# Altium footprint library Connectors.PcbLib: 15 footprints
Each footprint in its own frame and in the unit in brackets; x right, y up, seen from the top. Pads: shape width x height; smd on the part's side, far side on the other; paste and mask are expansions set on the pad; w line width, h text height; cw(c..) or ccw(c..) is an arc to the next point about the centre after c.
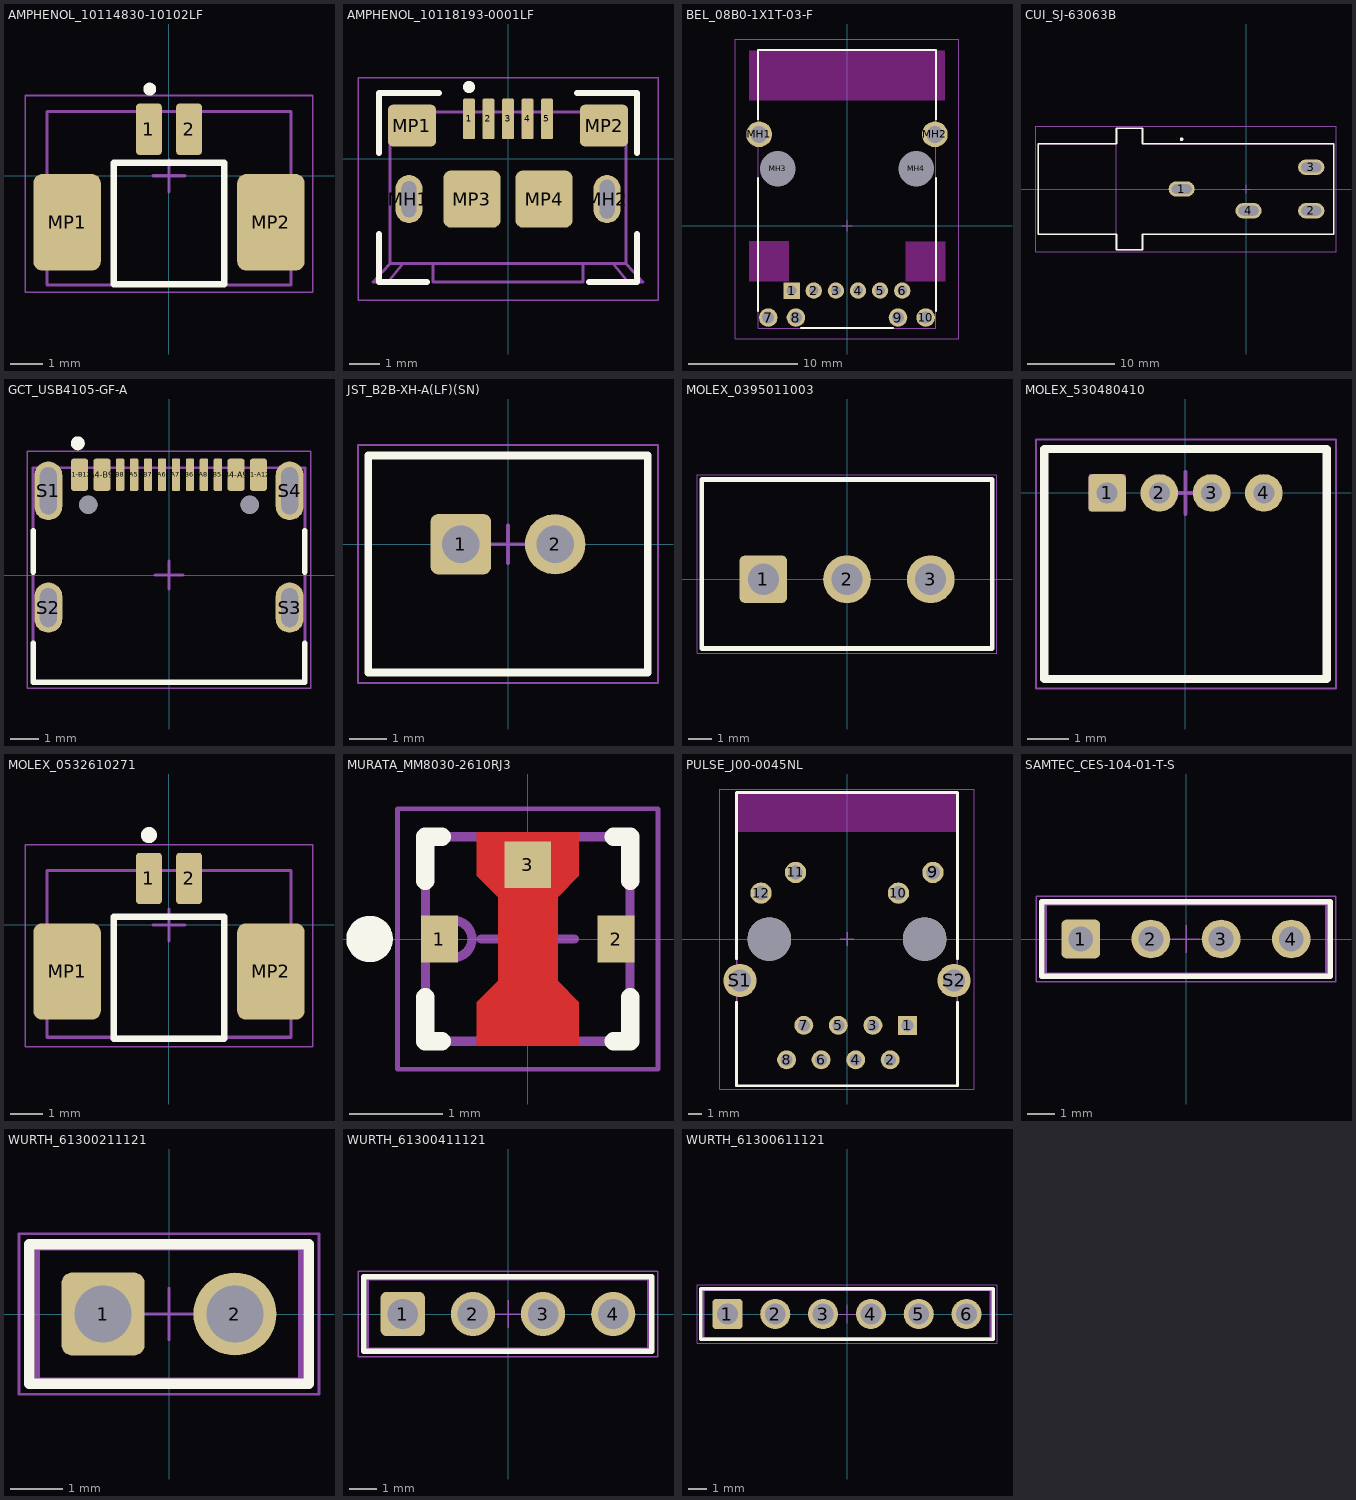
[diagram p0: the footprints below, top view; thin cyan lines are the x and y axes]

## AMPHENOL_10114830-10102LF [mm] "Connector Header Surface Mount, Right Angle 2 position 0.049\" (1.25mm)"
height 3.42
pads (4):
  rrect25% 0.8x1.6 smd: 1(-0.625,1.45) 2(0.625,1.45)
  rrect25% 2.1x3 smd: MP1(-3.175,-1.45) MP2(3.175,-1.45)
Top Overlay:
  circle w0.2: c-0.6,2.7 r0.1
  lines w0.2: -1.725,-3.375 -1.725,0.4 1.725,0.4 1.725,-3.375 -1.725,-3.375
Top Component Outline:
  lines w0.1: -3.8,-3.4 -3.8,2 3.8,2 3.8,-3.4 -3.8,-3.4
Top Courtyard:
  lines w0.05: -4.475,-3.625 -4.475,2.5 4.475,2.5 4.475,-3.625 -4.475,-3.625
Top Component Center:
  lines w0.1: -0.5,0 0.5,0 ; 0,-0.5 0,0.5
Top Designator:
  text ".Designator" at -4.04,-0.476 h2
Top Assembly:
  lines w0.1: -3.8,-3.4 -3.8,2 3.8,2 3.8,-3.4 -3.8,-3.4
  text ".Designator" at -4.04,-0.476 h2
3D body "AMPHENOL_10114830-10102LF.step": height 3.42, standoff -0.06, extent -3.825,-3.35 3.825,1.95

## AMPHENOL_10118193-0001LF [mm] "USB - micro B USB 2.0 Receptacle Connector 5 Position Surface Mount, Right Angle; Through Hole"
height 2.813
pads (11):
  rrect25% 0.4x1.35 smd: 1(-1.3,1.338) 2(-0.65,1.338) 3(0,1.338) 4(0.65,1.338) 5(1.3,1.338)
  rrect100% 0.9x1.6 hole 0.5 slot 1.2 at 90 deg: MH1(-3.3,-1.337)
  rrect100% 0.9x1.6 hole 0.5 slot 1.3 at 90 deg: MH2(3.3,-1.337)
  rrect25% 1.6x1.4 smd: MP1(-3.2,1.113) MP2(3.2,1.113)
  rrect25% 1.9x1.9 smd: MP3(-1.2,-1.337) MP4(1.2,-1.337)
Top Overlay:
  circle w0.2: c-1.3,2.4 r0.1
  lines w0.2: -4.3,-2.5 -4.3,-4.1 -2.7,-4.1 ; -4.3,0.2 -4.3,2.2 -2.3,2.2 ; 2.3,2.2 4.3,2.2 4.3,0.2 ; 2.7,-4.1 4.3,-4.1 4.3,-2.5
Top Component Outline:
  lines w0.1: -3.5,-3.487 -4,-4.097 -4.5,-4.097 -3.93,-3.487 ; -2.5,-3.487 -2.5,-4.097 2.5,-4.097 2.5,-3.487 ; 3.5,-3.487 4,-4.097 4.5,-4.097 3.93,-3.487 ; -3.93,-3.487 3.93,-3.487 ; -3.93,-3.487 -3.93,1.563 3.93,1.563 3.93,-3.487
Top Courtyard:
  lines w0.05: -5,-4.7 5,-4.7 5,2.7 -5,2.7 -5,-4.7
Top Assembly:
  lines w0.1: -3.5,-3.487 -4,-4.097 -4.5,-4.097 -3.93,-3.487 ; -2.5,-3.487 -2.5,-4.097 2.5,-4.097 2.5,-3.487 ; 3.5,-3.487 4,-4.097 4.5,-4.097 3.93,-3.487 ; -3.93,-3.487 3.93,-3.487 ; -3.93,-3.487 -3.93,1.563 3.93,1.563 3.93,-3.487
3D body "AMPHENOL_10118193-0001LF.step": height 2.85, standoff -0.75, extent -3.93,-4.06 3.93,1.65

## BEL_08B0-1X1T-03-F [mm] "1 Port RJ45 Through Hole 10/100 Base-T"
pads (14):
  rect 1.5x1.5 hole 0.9: 1(-5.08,-5.935)
  round 1.5 hole 0.9: 2(-3.05,-5.935) 3(-1.02,-5.935) 4(1.01,-5.935) 5(3.04,-5.935) 6(5.07,-5.935)
  round 1.7 hole 1.1: 7(-7.23,-8.405) 8(-4.69,-8.405) 9(4.68,-8.405) 10(7.22,-8.405)
  round 2.355 hole 1.57: MH1(-8.065,8.405) MH2(8.065,8.405)
  round 1.625 hole 3.25 unplated: MH3(-6.35,5.235) MH4(6.35,5.235)
Top Overlay:
  lines w0.2: -8.155,-7.81 -8.155,4.39 ; -8.155,9.79 -8.155,16.155 8.155,16.155 8.155,9.79 ; -4.2,-9.375 4.2,-9.375 ; 8.155,-7.81 8.155,4.39
Keep-Out Layer:
  rectangle: 5.361,-5.094 9.041,-1.414
  rectangle: -9,-5.08 -5.32,-1.4
  rectangle: -9.015,11.53 9.015,16.1
Top Component Outline:
  lines w0.1: -8.155,-9.375 8.155,-9.375 8.155,16.155 -8.155,16.155 -8.155,-9.375
Top Courtyard:
  lines w0.05: -10.242,-10.375 10.242,-10.375 10.242,17.155 -10.242,17.155 -10.242,-10.375
Top Component Center:
  lines w0.1: -0.5,0 0.5,0 ; 0,-0.5 0,0.5
Top Designator:
  text ".Designator" at -4.04,-0.476 h2
Top Assembly:
  lines w0.1: -8.155,-9.375 8.155,-9.375 8.155,16.155 -8.155,16.155 -8.155,-9.375
3D body "BEL_08B0-1X1T-03-F.step": height 15.41, standoff -3.29, extent -9.547,-9.355 9.547,16.807

## CUI_SJ-63063B [mm] "6.35 mm, Stereo, Right Angle, Through Hole, 3 Conductors, 1 Internal Tip Switch, Audio Jack Connector"
height 12.52
pads (4):
  oval 3.016x1.75 hole 1.1 slot 2.3 at 0 deg: 1(-7.45,0) 2(7.45,-2.5) 3(7.45,2.5) 4(0.25,-2.5)
Top Overlay:
  circle w0.2: c-7.45,5.725 r0.1
  lines w0.2: -23.95,-5.2 -23.95,5.2 -14.95,5.2 -14.95,7 -11.95,7 -11.95,5.2 10.05,5.2 10.05,-5.2 -11.95,-5.2 -11.95,-7 -14.95,-7 -14.95,-5.2 -23.95,-5.2
Top Component Outline:
  circle w0.2: c-7.45,5.725 r0.1
  lines w0.1: -14.95,-5.2 -14.95,-7 -11.95,-7 -11.95,-5.2 10.05,-5.2 10.05,5.2 -11.95,5.2 -11.95,7 -14.95,7 -14.95,5.2 ; -14.95,-5.2 -14.95,5.2 ; -14.95,-5.2 -23.95,-5.2 -23.95,5.2 -14.95,5.2
Top Courtyard:
  lines w0.05: -24.2,-7.2 10.3,-7.2 10.3,7.2 -24.2,7.2 -24.2,-7.2
Top Component Center:
  lines w0.1: -0.5,0 0.5,0 ; 0,-0.5 0,0.5
Top Designator:
  text ".Designator" at -4.04,-0.476 h2
Top Assembly:
  circle w0.2: c-7.45,5.725 r0.1
  lines w0.1: -14.95,-5.2 -14.95,-7 -11.95,-7 -11.95,-5.2 10.05,-5.2 10.05,5.2 -11.95,5.2 -11.95,7 -14.95,7 -14.95,5.2 ; -14.95,-5.2 -14.95,5.2 ; -14.95,-5.2 -23.95,-5.2 -23.95,5.2 -14.95,5.2 ; -8.169,-0.509 cw(c-8.14,0) -8.169,0.509 -6.731,0.509 cw(c-6.76,0) -6.731,-0.509 -8.169,-0.509 ; -0.469,-3.009 cw(c-0.44,-2.5) -0.469,-1.991 0.969,-1.991 cw(c0.94,-2.5) 0.969,-3.009 -0.469,-3.009 ; 6.731,-3.009 cw(c6.76,-2.5) 6.731,-1.991 8.169,-1.991 cw(c8.14,-2.5) 8.169,-3.009 6.731,-3.009 ; 6.731,1.966 cw(c6.76,2.475) 6.731,2.984 8.169,2.984 cw(c8.14,2.475) 8.169,1.966 6.731,1.966
  text ".Designator" at -4.04,-0.476 h2
3D body "CUI_SJ-63063B.step": height 12.52, standoff -4.28, extent -23.975,-6.925 9.875,6.975

## GCT_USB4105-GF-A [mm] "USB-C (USB TYPE-C) USB 2.0 Receptacle Connector 24 (16+8 Dummy) Position Surface Mount, Right Angle; Through Hole"
height 3.263
pads (18):
  rrect25% 0.6x1.15 smd: A1-B12(-3.2,3.59) A4-B9(-2.4,3.59) B1-A12(3.2,3.59) B4-A9(2.4,3.59)
  rrect25% 0.3x1.15 smd: A5(-1.25,3.59) A6(-0.25,3.59) A7(0.25,3.59) A8(1.25,3.59) B5(1.75,3.59) B6(0.75,3.59) B7(-0.75,3.59) B8(-1.75,3.59)
  rrect100% 1x2.1 hole 0.6 slot 1.7 at 90 deg: S1(-4.32,3.015) S4(4.32,3.015)
  rrect100% 1x1.8 hole 0.6 slot 1.4 at 90 deg: S2(-4.32,-1.165) S3(4.32,-1.165)
  round 0.65 hole 0.65 unplated mask+0: ""(-2.89,2.515) ""(2.89,2.515)
Top Overlay:
  circle w0.25: c-3.265,4.715 r0.125
  lines w0.2: -4.865,-2.44 -4.865,-3.84 4.865,-3.84 4.865,-2.44 ; -4.865,0.11 -4.865,1.59 ; 4.865,0.11 4.865,1.59
Top Component Outline:
  lines w0.1: -4.865,-3.84 4.865,-3.84 4.865,3.84 -4.865,3.84 -4.865,-3.84
Top Courtyard:
  lines w0.05: -5.075,-4.05 -5.075,4.425 5.075,4.425 5.075,-4.05 -5.075,-4.05
Top Component Center:
  lines w0.1: -0.5,0 0.5,0 ; 0,-0.5 0,0.5
Top Designator:
  text ".Designator" at -4.04,-0.476 h2
Top Assembly:
  lines w0.1: -4.865,-3.84 4.865,-3.84 4.865,3.84 -4.865,3.84 -4.865,-3.84
  text ".Designator" at -4.04,-0.476 h2
3D body "GCT_USB4105-GF-A.step": height 3.26, standoff -0.9, extent -4.79,-3.765 4.79,3.769

## JST_B2B-XH-A(LF)(SN) [mm] "Connector Header Through Hole 2 position 0.098\" (2.50mm)"
height 7
pads (2):
  rrect25% 1.6x1.6 hole 1: 1(-1.25,0)
  round 1.6 hole 1: 2(1.25,0)
Top Overlay:
  lines w0.2: -3.7,-3.4 -3.7,2.35 3.7,2.35 3.7,-3.4 -3.7,-3.4
Top Component Outline:
  lines w0.1: -3.7,-3.4 -3.7,2.35 3.7,2.35 3.7,-3.4 -3.7,-3.4
Top Courtyard:
  lines w0.05: -3.975,-3.675 -3.975,2.625 3.975,2.625 3.975,-3.675 -3.975,-3.675
Top Component Center:
  lines w0.1: -0.5,0 0.5,0 ; 0,-0.5 0,0.5
Top Designator:
  text ".Designator" at -4.04,-0.476 h2
Top Assembly:
  lines w0.1: -3.712,-3.403 -3.712,2.347 3.688,2.347 3.688,-3.403 -3.712,-3.403 ; -1.85,-0.6 -1.85,0.6 -0.65,0.6 -0.65,-0.6 -1.85,-0.6
  text ".Designator" at -4.04,-0.476 h2
3D body "JST_B2B-XH-A(LF)(SN).step": height 7, standoff -3.4, extent -3.7,-3.4 3.7,2.35

## MOLEX_0395011003 [mm] "3 Position Terminal Block Header, Male Pins, Shrouded (4 Side) 0.138\" (3.50mm) Vertical - Through Hole"
height 9.18
pads (3):
  rrect25% 2x2 hole 1.3: 1(-3.5,0)
  round 2 hole 1.3: 2(0,0) 3(3.5,0)
Top Overlay:
  lines w0.2: -6.075,-2.9 -6.075,4.175 6.075,4.175 6.075,-2.9 -6.075,-2.9
Top Component Outline:
  lines w0.1: -6.075,-2.9 -6.075,4.175 6.075,4.175 6.075,-2.9 -6.075,-2.9
Top Courtyard:
  lines w0.05: -6.275,-3.1 6.275,-3.1 6.275,4.375 -6.275,4.375 -6.275,-3.1
Top Component Center:
  lines w0.1: -0.5,0 0.5,0 ; 0,-0.5 0,0.5
Top Designator:
  text ".Designator" at -4.04,-0.476 h2
Top Assembly:
  lines w0.1: -6.075,-2.9 -6.075,4.175 6.075,4.175 6.075,-2.9 -6.075,-2.9 ; -4.2,-0.7 -4.2,0.7 -2.8,0.7 -2.8,-0.7 -4.2,-0.7
  text ".Designator" at -4.04,-0.476 h2
3D body "MOLEX_TB_395011003.step": height 9.18, standoff -3.52, extent -5.956,-2.794 5.956,4.064

## MOLEX_530480410 [mm] "Connector Header Through Hole, Right Angle 4 position 0.049\" (1.25mm)"
height 3.52
pads (4):
  rrect25% 0.9x0.9 hole 0.5: 1(-1.875,0)
  round 0.9 hole 0.5: 2(-0.625,0) 3(0.625,0) 4(1.875,0)
Top Overlay:
  lines w0.2: -3.375,-4.45 -3.375,1.05 3.375,1.05 3.375,-4.45 -3.375,-4.45
Top Component Outline:
  lines w0.1: -3.375,-4.45 -3.375,1.05 3.375,1.05 3.375,-4.45 -3.375,-4.45
Top Courtyard:
  lines w0.05: -3.575,-4.675 -3.575,1.275 3.6,1.275 3.6,-4.675 -3.575,-4.675
Top Component Center:
  lines w0.1: -0.5,0 0.5,0 ; 0,-0.5 0,0.5
Top Designator:
  text ".Designator" at -4.04,-2.576 h2
Top Assembly:
  lines w0.1: -3.375,-4.45 -3.375,1.05 3.375,1.05 3.375,-4.45 -3.375,-4.45 ; -2.275,-0.4 -2.275,0.4 -1.475,0.4 -1.475,-0.4 -2.275,-0.4
  text ".Designator" at -4.04,-2.576 h2
3D body "MOLEX_53048041.step": height 3.52, standoff -2.28, extent -3.375,-4.45 3.375,1.05

## MOLEX_0532610271 [mm] "Connector Header Surface Mount, Right Angle 2 position 0.049\" (1.25mm)"
height 3.4
pads (4):
  rrect25% 0.8x1.6 smd: 1(-0.625,1.45) 2(0.625,1.45)
  rrect25% 2.1x3 smd: MP1(-3.175,-1.45) MP2(3.175,-1.45)
Top Overlay:
  circle w0.25: c-0.625,2.8 r0.125
  lines w0.2: -1.725,-3.55 1.725,-3.55 1.725,0.25 -1.725,0.25 -1.725,-3.55
Top Component Outline:
  lines w0.1: -3.8,-3.5 3.8,-3.5 3.8,1.7 -3.8,1.7 -3.8,-3.5
Top Courtyard:
  lines w0.05: -4.475,-3.8 4.475,-3.8 4.475,2.5 -4.475,2.5 -4.475,-3.8
Top Component Center:
  lines w0.1: -0.5,0 0.5,0 ; 0,-0.5 0,0.5
Top Designator:
  text ".Designator" at -4.04,-0.476 h2
Top Assembly:
  lines w0.1: -3.8,-3.5 3.8,-3.5 3.8,1.7 -3.8,1.7 -3.8,-3.5
  text ".Designator" at -4.04,-0.476 h2
3D body "MOLEX_532610271.step": height 3.4, standoff 0, extent -3.825,-3.525 3.825,1.675

## MURATA_MM8030-2610RJ3 [mm] "SWG Connector Receptacle, Female Socket 50Ohm Surface Mount Solder"
height 1
pads (3):
  rect 0.4x0.5 smd paste-1 mask-1000: 1(-0.95,0) 2(0.95,0)
  rect 0.5x0.5 smd paste-1 mask+0: 3(0,0.8)
Top Layer:
  region: -0.55,-1.15 0.55,-1.15 0.55,-0.68 0.32,-0.45 0.32,0.45 0.55,0.68 0.55,1.15 -0.55,1.15 -0.55,0.68 -0.32,0.45 -0.32,-0.45 -0.55,-0.68
Top Overlay:
  circle w0.25: c-1.7,0 r0.125
  lines w0.2: -1.1,-0.625 -1.1,-1.1 -0.925,-1.1 ; -1.1,0.625 -1.1,1.1 -0.925,1.1 ; 0.925,-1.1 1.1,-1.1 1.1,-0.625 ; 0.925,1.1 1.1,1.1 1.1,0.625
Top Paste:
  rectangle: 0.79,-0.18 1.15,0.18
  rectangle: -1.15,-0.18 -0.79,0.18
  region: 0,-0.55 0.42,-0.55 0.55,-0.68 0.55,-1.1 -0.55,-1.1 -0.55,-0.68 -0.42,-0.55
  region: 0,0.55 0.42,0.55 0.55,0.68 0.55,1.1 -0.55,1.1 -0.55,0.68 -0.42,0.55
Top Solder:
  region: 1.15,-0.5 0.55,-0.5 0.32,-0.25 0.32,0.25 0.55,0.5 1.15,0.5
  region: -1.15,-0.5 -0.55,-0.5 -0.32,-0.25 -0.32,0.25 -0.55,0.5 -1.15,0.5
  region: 0,-0.45 0.32,-0.45 0.55,-0.68 0.55,-1.15 -0.55,-1.15 -0.55,-0.68 -0.32,-0.45
  region: 0,0.45 0.32,0.45 0.55,0.68 0.55,1.15 -0.55,1.15 -0.55,0.68 -0.32,0.45
Top Component Outline:
  lines w0.1: -1.1,-1.1 1.1,-1.1 1.1,1.1 -1.1,1.1 -1.1,-1.1
Top Courtyard:
  lines w0.05: -1.4,-1.4 1.4,-1.4 1.4,1.4 -1.4,1.4 -1.4,-1.4
Top Component Center:
  lines w0.1: -0.5,0 0.5,0 ; 0,-0.5 0,0.5
Top Designator:
  text ".Designator" at -4.04,-0.476 h2
Top Assembly:
  circle w0.1: c-0.8,0 r0.2
  lines w0.1: -1.1,-1.1 1.1,-1.1 1.1,1.1 -1.1,1.1 -1.1,-1.1
  text ".Designator" at -4.04,-0.476 h2
Bottom Courtyard:
  lines w0.05: -1.4,-1.4 1.4,-1.4 1.4,1.4 -1.4,1.4 -1.4,-1.4
3D body "MURATA_MM8030-2610RJ3.step": height 1, standoff 0, extent -1.01,-1 1.09,1

## PULSE_J00-0045NL [mm] "1 Port RJ45 Through Hole 10/100 Base-TX, AutoMDIX"
height 13.84
pads (16):
  rect 1.39x1.39 hole 0.89: 1(4.445,-6.341)
  round 1.39 hole 0.89: 2(3.175,-8.881) 3(1.905,-6.341) 4(0.635,-8.881) 5(-0.635,-6.341) 6(-1.905,-8.881) 7(-3.175,-6.341) 8(-4.445,-8.881)
  round 1.57 hole 1.02: 9(6.325,4.909) 10(3.785,3.389) 11(-3.785,4.909) 12(-6.325,3.389)
  round 2.45 hole 1.6: S1(-7.875,-3.041) S2(7.875,-3.041)
  round 3.2 hole 3.2 unplated mask+0: ""(-5.715,0.009) ""(5.715,0.009)
Top Overlay:
  lines w0.2: -8.13,-4.641 -8.13,-10.791 8.13,-10.791 8.13,-4.641 ; -8.13,-1.441 -8.13,10.799 8.13,10.799 8.13,-1.441
Keep-Out Layer:
  rectangle: -8.13,7.879 8.13,10.799
Top Component Outline:
  lines w0.1: -8.13,-10.791 -8.13,10.799 8.13,10.799 8.13,-10.791 -8.13,-10.791
Top Courtyard:
  lines w0.05: -9.35,-11.025 9.35,-11.025 9.35,11.05 -9.35,11.05 -9.35,-11.025
Top Component Center:
  lines w0.1: -0.5,0.004 0.5,0.004 ; 0,-0.496 0,0.504
Top Designator:
  text ".Designator" at -4.04,-0.476 h2
Top Assembly:
  lines w0.1: -8.125,-10.8 -8.125,10.8 8.125,10.8 8.125,-10.8 -8.125,-10.8
  text ".Designator" at -4.04,-0.476 h2
Bottom Courtyard:
  lines w0.05: -9.35,-11.025 9.35,-11.025 9.35,11.05 -9.35,11.05 -9.35,-11.025
3D body "PULSE_J00-0045NL.step": height 13.84, standoff -3.3, extent -8.115,-10.766 8.116,10.817

## SAMTEC_CES-104-01-T-S [mm] "4 Position Receptacle Connector 0.100\" (2.54mm) Through Hole Tin"
height 8.56
pads (4):
  rrect25% 1.4x1.4 hole 0.9: 1(-3.81,0)
  round 1.4 hole 0.9: 2(-1.27,0) 3(1.27,0) 4(3.81,0)
Top Overlay:
  lines w0.2: -5.23,-1.345 5.23,-1.345 5.23,1.345 -5.23,1.345 -5.23,-1.345
Top Component Outline:
  lines w0.1: -5.08,-1.27 -5.08,1.27 5.08,1.27 5.08,-1.27 -5.08,-1.27
Top Courtyard:
  lines w0.05: -5.43,-1.545 5.43,-1.545 5.43,1.545 -5.43,1.545 -5.43,-1.545
Top Component Center:
  lines w0.05: -0.5,0 0.5,0 ; 0,-0.5 0,0.5
Top Designator:
  text ".Designator" at -4.04,-0.476 h2
Top Assembly:
  lines w0.1: -5.08,-1.27 -5.08,1.27 5.08,1.27 5.08,-1.27 -5.08,-1.27 ; -4.415,-0.6 -4.415,0.6 -3.215,0.6 -3.215,-0.6 -4.415,-0.6
  text ".Designator" at -4.04,-0.476 h2
3D body "SAMTEC_CES-104-01-T-S.step": height 5.09, standoff -3.24, extent -5.08,-1.524 5.08,1.524

## WURTH_61300211121 [mm] "Connector Header Through Hole 2 position 0.100\" (2.54mm)"
height 8.56
pads (2):
  rrect25% 1.6x1.6 hole 1.1: 1(-1.27,0)
  round 1.6 hole 1.1: 2(1.27,0)
Top Overlay:
  lines w0.2: -2.69,-1.345 2.69,-1.345 2.69,1.345 -2.69,1.345 -2.69,-1.345
Top Component Outline:
  lines w0.1: -2.54,-1.27 -2.54,1.27 2.54,1.27 2.54,-1.27 -2.54,-1.27
Top Courtyard:
  lines w0.05: -2.89,-1.545 2.89,-1.545 2.89,1.545 -2.89,1.545 -2.89,-1.545
Top Component Center:
  lines w0.05: -0.5,0 0.5,0 ; 0,-0.5 0,0.5
Top Designator:
  text ".Designator" at -4.04,-0.476 h2
Top Assembly:
  lines w0.1: -2.54,-1.27 -2.54,1.27 2.54,1.27 2.54,-1.27 -2.54,-1.27 ; -1.875,-0.6 -1.875,0.6 -0.675,0.6 -0.675,-0.6 -1.875,-0.6
  text ".Designator" at -4.04,-0.476 h2
3D body "WURTH_61300211121.step": height 8.56, standoff -2.98, extent -2.54,-1.27 2.54,1.27

## WURTH_61300411121 [mm] "Connector Header Through Hole 4 position 0.100\" (2.54mm)"
height 8.56
pads (4):
  rrect25% 1.6x1.6 hole 1.1: 1(-3.81,0)
  round 1.6 hole 1.1: 2(-1.27,0) 3(1.27,0) 4(3.81,0)
Top Overlay:
  lines w0.2: -5.23,-1.345 -5.23,1.345 5.2,1.345 5.2,-1.345 -5.23,-1.345
Top Component Outline:
  lines w0.1: -5.08,-1.27 5.08,-1.27 5.08,1.27 -5.08,1.27 -5.08,-1.27
Top Courtyard:
  lines w0.05: -5.43,-1.545 -5.43,1.545 5.43,1.545 5.43,-1.545 -5.43,-1.545
Top Component Center:
  lines w0.05: -0.5,0 0.5,0 ; 0,-0.5 0,0.5
Top Designator:
  text ".Designator" at -4.04,-0.476 h2
Top Assembly:
  lines w0.1: -5.08,-1.27 5.08,-1.27 5.08,1.27 -5.08,1.27 -5.08,-1.27 ; -4.415,-0.6 -3.215,-0.6 -3.215,0.6 -4.415,0.6 -4.415,-0.6
  text ".Designator" at -4.04,-0.476 h2
3D body "WURTH_61300411121.step": height 8.56, standoff -2.98, extent -5.08,-1.27 5.08,1.27

## WURTH_61300611121 [mm] "Connector Header Through Hole 6 position 0.100\" (2.54mm)"
height 8.56
pads (6):
  rrect25% 1.6x1.6 hole 1.1: 1(-6.35,0)
  round 1.6 hole 1.1: 2(-3.81,0) 3(-1.27,0) 4(1.27,0) 5(3.81,0) 6(6.35,0)
Top Overlay:
  lines w0.2: -7.77,-1.345 -7.77,1.345 7.77,1.345 7.77,-1.345 -7.77,-1.345
Top Component Outline:
  lines w0.1: -7.62,-1.27 7.62,-1.27 7.62,1.27 -7.62,1.27 -7.62,-1.27
Top Courtyard:
  lines w0.05: -7.97,-1.545 -7.97,1.545 7.97,1.545 7.97,-1.545 -7.97,-1.545
Top Component Center:
  lines w0.05: -0.5,0 0.5,0 ; 0,-0.5 0,0.5
Top Designator:
  text ".Designator" at -4.04,-0.476 h2
Top Assembly:
  lines w0.1: -7.62,-1.27 7.62,-1.27 7.62,1.27 -7.62,1.27 -7.62,-1.27 ; -6.955,-0.6 -5.755,-0.6 -5.755,0.6 -6.955,0.6 -6.955,-0.6
  text ".Designator" at -4.04,-0.476 h2
3D body "WURTH_61300611121.step": height 8.56, standoff -2.98, extent -7.62,-1.27 7.62,1.27